# Altium schematic symbol library TMR 3-xx1x.SchLib: 1 symbol
Pins are listed as number, name and electrical type; pins without a type are passive.

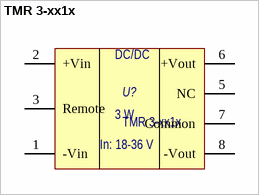
[diagram p0: symbol TMR 3-xx1x]

## TMR 3-xx1x
designator U?
DC-DC Converter with single output; Потребление, Вт: 3; Назначение: DC-DC Converter; Наименование: TMR 3-xx1x; ComponentLink1Description: DataSheet; ComponentLink1URL: https://static.chipdip.ru/lib/677/DOC011677263.pdf
footprint TMR 3-xx1x
pins: 1 -Vin, 2 +Vin, 3 Remote, 5 NC, 6 +Vout, 7 Common, 8 -Vout
text: DC/DC; 3 W; In: 18-36 V